# EAGLE library part MD09S (library con-yamaichi)
YAMAICHI CONNECTOR
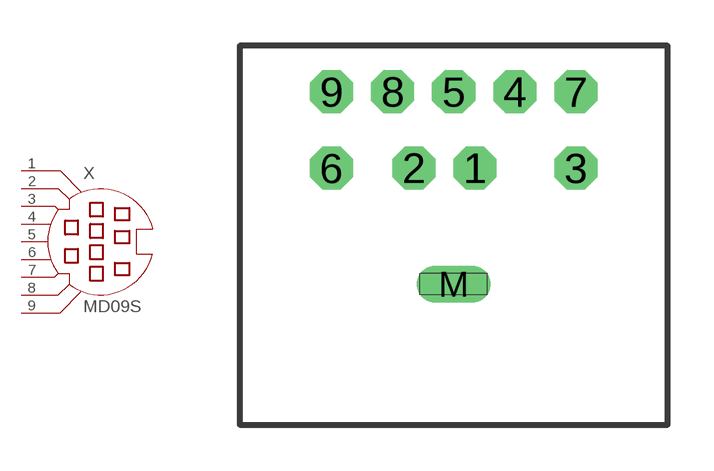
[diagram p2: symbol with the pads of MDIN09S; footprint MDIN09S]

Designator prefix X

## MD09S (OC_FARNELL: unknown; OC_NEWARK: unknown)  [MDIN09S]
1  1  pas
2  2  pas
3  3  pas
4  4  pas
5  5  pas
6  6  pas
7  7  pas
8  8  pas
9  9  pas

## Footprint MDIN09S (pad centres in mm)
Mini Din YAMAICHI CONNECTOR
drill 0.9 octagon: 1 0.7,8.5; 2 -1.3,8.5; 3 4,8.5; 4 2,11; 5 0,11; 6 -4,8.5; 7 4,11; 8 -2,11; 9 -4,11
drill 0.7 long: M 0,4.7